# EAGLE library part TEA1062 (library HelaTronix - IC Special Functions)
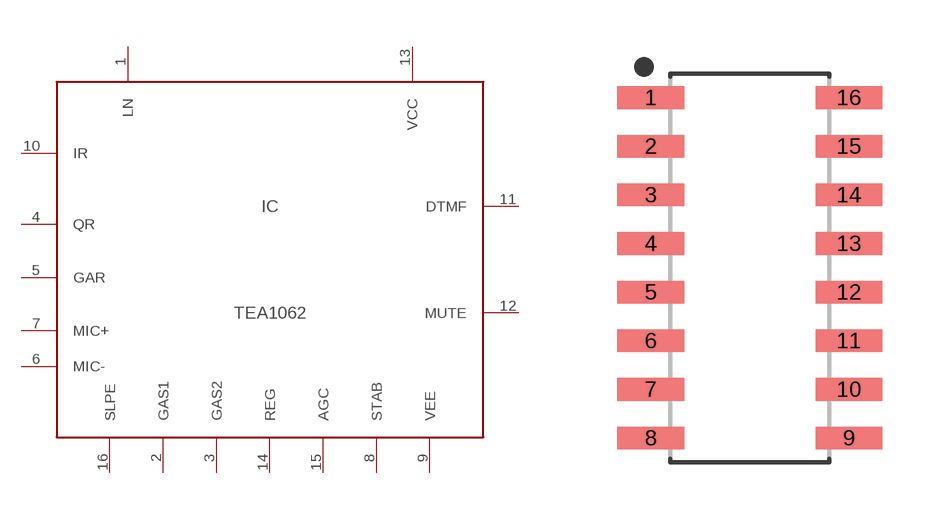
[diagram p13: symbol with the pads of SO16-127P600X175-16N; footprint SO16-127P600X175-16N]

Designator prefix IC

## TEA1062  [SO16-127P600X175-16N]
1  LN
2  GAS1
3  GAS2
4  QR
5  GAR
6  MIC-
7  MIC+
8  STAB
9  VEE
10  IR
11  DTMF
12  MUTE
13  VCC
14  REG
15  AGC
16  SLPE

## Footprint SO16-127P600X175-16N (pad centres in mm)
16-SOIC, 1.27 mm pitch, 6.00 mm span, 10.05 X 4.05 X 1.75 mm body 16-pin SOIC package with 1.27 mm pitch, 6.00 mm span with body size 10.05 X 4.05 X 1.75 mm
smd 1.746 x 0.592: 1 -2.585,4.445; 2 -2.585,3.175; 3 -2.585,1.905; 4 -2.585,0.635; 5 -2.585,-0.635; 6 -2.585,-1.905; 7 -2.585,-3.175; 8 -2.585,-4.445; 9 2.585,-4.445; 10 2.585,-3.175; 11 2.585,-1.905; 12 2.585,-0.635; 13 2.585,0.635; 14 2.585,1.905; 15 2.585,3.175; 16 2.585,4.445